# Altium schematic symbol library LP5912-3.3DRVR.Schlib: 1 symbol
Pins are listed as number, name and electrical type; pins without a type are passive.

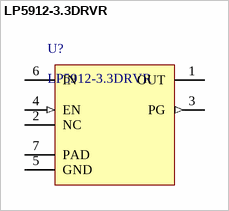
[diagram p0: symbol LP5912-3.3DRVR]

## LP5912-3.3DRVR
designator U?
Linear Voltage Regulator IC Positive Fixed 1 Output 500mA 6-WSON (2x2)
pins: 1 OUT (power), 2 NC, 3 PG (out), 4 EN (in), 5 GND (power), 6 IN (power), 7 PAD